# Altium schematic symbol library VREG.SchLib: 1 symbol
Pins are listed as number, name and electrical type; pins without a type are passive.

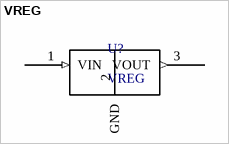
[diagram p0: symbol VREG]

## VREG
designator U?
Voltage regulator symbol
pins: 1 VIN (in), 2 GND (power), 3 VOUT (out)